# Altium integrated library TI Logic Gate 1.IntLib: 948 symbols (part 13 of 22)
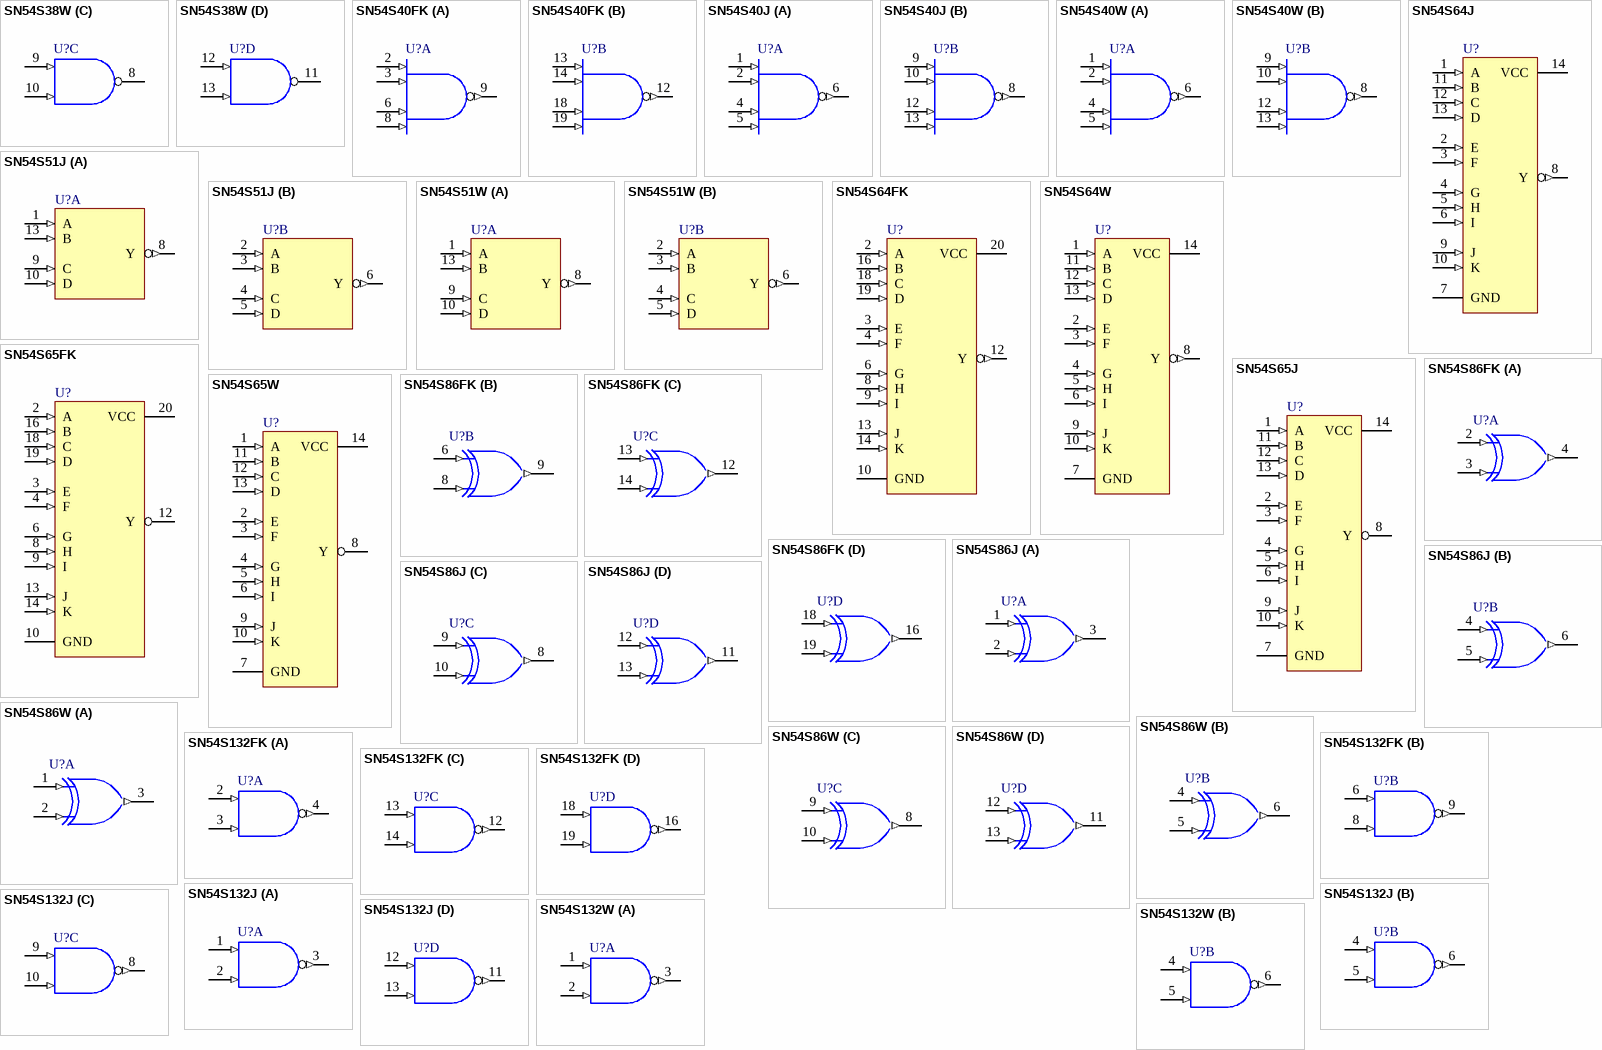
[diagram p102: symbols SN54S38W to SN54S132W]

## SN54S65W
designator U?
4-2-3-2 Input AND-OR-Invert Gate; Published: 8-Jun-2000; LatestRevisionDate: 04-Mar-2005; LatestRevisionNote: Stylized 3D Model Added.; DatasheetVersion: Mar-1988; PackageVersion: Jan-1995; PackageReference: W014; Publisher: Altium Limited; PackageDescription: DFP; 14 Leads; Body 9.9 x 6.6 mm (LxW max); Pitch 1.27 mm; Code_JEDEC: MO-092-AB; ComponentLink1Description: Manufacturer Link; ComponentLink1URL: http://www.ti.com/; ComponentLink2Description: Datasheet; ComponentLink2URL: http://www-s.ti.com/sc/ds/sn54s64.pdf; ComponentLink3Description: Packaging Specification; ComponentLink3URL: http://focus.ti.com/lit/ml/mcfp002a/mcfp002a.pdf
footprint W014 (DFP; 14 Leads; Body 9.9 x 6.6 mm (LxW max); Pitch 1.27 mm)
3D model W014 (DFP; 14 Leads; Body 9.9 x 6.6 mm (LxW max); Pitch 1.27 mm)
signal-integrity model SN54S65W
pins: 1 A (in), 2 E (in), 3 F (in), 4 G (in), 5 H (in), 6 I (in), 7 GND (power), 8 Y (oc), 9 J (in), 10 K (in), 11 B (in), 12 C (in), 13 D (in), 14 VCC (power)

## SN54S86FK
designator U?
Quadruple 2-Input Exclusive-OR Gate; Note: Pins 1, 5, 7, 11, 15 and 17 are not connected and not drawn; Published: 8-Jun-2000; LatestRevisionDate: 17-Jul-2002; LatestRevisionNote: Re-released for DXP Platform.; DatasheetVersion: Mar-1988; PackageVersion: 1998; PackageReference: FK020; Publisher: Altium Limited; PackageDescription: Leadless Chip Carrier; 20 Terminals; Body 8.9 x 8.9 mm; ComponentLink1Description: Manufacturer Link; ComponentLink1URL: http://www.ti.com/; ComponentLink2Description: Datasheet; ComponentLink2URL: http://www-s.ti.com/sc/ds/sn5486.pdf; ComponentLink3Description: Packaging Specification; ComponentLink3URL: http://www-s.ti.com/sc/psheets/mlcc006b/mlcc006b.pdf
footprint FK020 (Leadless Chip Carrier; 20 Terminals; Body 8.9 x 8.9 mm)
signal-integrity model SN54S86FK
pins on every part: 10 GND (power) hidden to GND, 20 VCC (power) hidden to VCC
part A pins: 2 A (in), 3 B (in), 4 Y (out)
part B pins: 6 A (in), 8 B (in), 9 Y (out)
part C pins: 12 Y (out), 13 A (in), 14 B (in)
part D pins: 16 Y (out), 18 A (in), 19 B (in)

## SN54S86J
designator U?
Quadruple 2-Input Exclusive-OR Gate; Published: 8-Jun-2000; LatestRevisionDate: 04-Mar-2005; LatestRevisionNote: Stylized 3D Model Added.; DatasheetVersion: Mar-1988; PackageVersion: Jun-1999; PackageReference: J014; Publisher: Altium Limited; PackageDescription: DIP; 14 Leads; Row Spacing 7.62 mm; Pitch 2.54 mm; ComponentLink1Description: Manufacturer Link; ComponentLink1URL: http://www.ti.com/; ComponentLink2Description: Datasheet; ComponentLink2URL: http://www-s.ti.com/sc/ds/sn5486.pdf; ComponentLink3Description: Packaging Specification; ComponentLink3URL: http://focus.ti.com/lit/ml/mcer002d/mcer002d.pdf
footprint J014 (DIP; 14 Leads; Row Spacing 7.62 mm; Pitch 2.54 mm)
3D model J014 (DIP; 14 Leads; Row Spacing 7.62 mm; Pitch 2.54 mm)
signal-integrity model SN54S86J
pins on every part: 7 GND (power) hidden to GND, 14 VCC (power) hidden to VCC
part A pins: 1 A (in), 2 B (in), 3 Y (out)
part B pins: 4 A (in), 5 B (in), 6 Y (out)
part C pins: 8 Y (out), 9 A (in), 10 B (in)
part D pins: 11 Y (out), 12 A (in), 13 B (in)

## SN54S86W
designator U?
Quadruple 2-Input Exclusive-OR Gate; Published: 8-Jun-2000; LatestRevisionDate: 04-Mar-2005; LatestRevisionNote: Stylized 3D Model Added.; DatasheetVersion: Mar-1988; PackageVersion: Jan-1995; PackageReference: W014; Publisher: Altium Limited; PackageDescription: DFP; 14 Leads; Body 9.9 x 6.6 mm (LxW max); Pitch 1.27 mm; Code_JEDEC: MO-092-AB; ComponentLink1Description: Manufacturer Link; ComponentLink1URL: http://www.ti.com/; ComponentLink2Description: Datasheet; ComponentLink2URL: http://www-s.ti.com/sc/ds/sn5486.pdf; ComponentLink3Description: Packaging Specification; ComponentLink3URL: http://focus.ti.com/lit/ml/mcfp002a/mcfp002a.pdf
footprint W014 (DFP; 14 Leads; Body 9.9 x 6.6 mm (LxW max); Pitch 1.27 mm)
3D model W014 (DFP; 14 Leads; Body 9.9 x 6.6 mm (LxW max); Pitch 1.27 mm)
signal-integrity model SN54S86W
pins on every part: 7 GND (power) hidden to GND, 14 VCC (power) hidden to VCC
part A pins: 1 A (in), 2 B (in), 3 Y (out)
part B pins: 4 A (in), 5 B (in), 6 Y (out)
part C pins: 8 Y (out), 9 A (in), 10 B (in)
part D pins: 11 Y (out), 12 A (in), 13 B (in)

## SN54S132FK
designator U?
Quadruple 2-Input Positive-NAND Schmitt Trigger; Note: Pins 1, 5, 7, 11, 15 and 17 are not connected and not drawn; Published: 8-Jun-2000; LatestRevisionDate: 17-Jul-2002; LatestRevisionNote: Re-released for DXP Platform.; DatasheetVersion: Mar-1988; PackageVersion: 1998; PackageReference: FK020; Publisher: Altium Limited; PackageDescription: Leadless Chip Carrier; 20 Terminals; Body 8.9 x 8.9 mm; ComponentLink1Description: Manufacturer Link; ComponentLink1URL: http://www.ti.com/; ComponentLink2Description: Datasheet; ComponentLink2URL: http://www-s.ti.com/sc/ds/sn54ls132.pdf; ComponentLink3Description: Packaging Specification; ComponentLink3URL: http://www-s.ti.com/sc/psheets/mlcc006b/mlcc006b.pdf
footprint FK020 (Leadless Chip Carrier; 20 Terminals; Body 8.9 x 8.9 mm)
signal-integrity model SN54S132FK
pins on every part: 10 GND (power) hidden to GND, 20 VCC (power) hidden to VCC
part A pins: 2 A (in), 3 B (in), 4 Y (out)
part B pins: 6 A (in), 8 B (in), 9 Y (out)
part C pins: 12 Y (out), 13 A (in), 14 B (in)
part D pins: 16 Y (out), 18 A (in), 19 B (in)

## SN54S132J
designator U?
Quadruple 2-Input Positive-NAND Schmitt Trigger; Published: 8-Jun-2000; LatestRevisionDate: 04-Mar-2005; LatestRevisionNote: Stylized 3D Model Added.; DatasheetVersion: Mar-1988; PackageVersion: Jun-1999; PackageReference: J014; Publisher: Altium Limited; PackageDescription: DIP; 14 Leads; Row Spacing 7.62 mm; Pitch 2.54 mm; ComponentLink1Description: Manufacturer Link; ComponentLink1URL: http://www.ti.com/; ComponentLink2Description: Datasheet; ComponentLink2URL: http://www-s.ti.com/sc/ds/sn54ls132.pdf; ComponentLink3Description: Packaging Specification; ComponentLink3URL: http://focus.ti.com/lit/ml/mcer002d/mcer002d.pdf
footprint J014 (DIP; 14 Leads; Row Spacing 7.62 mm; Pitch 2.54 mm)
3D model J014 (DIP; 14 Leads; Row Spacing 7.62 mm; Pitch 2.54 mm)
signal-integrity model SN54S132J
pins on every part: 7 GND (power) hidden to GND, 14 VCC (power) hidden to VCC
part A pins: 1 A (in), 2 B (in), 3 Y (out)
part B pins: 4 A (in), 5 B (in), 6 Y (out)
part C pins: 8 Y (out), 9 A (in), 10 B (in)
part D pins: 11 Y (out), 12 A (in), 13 B (in)

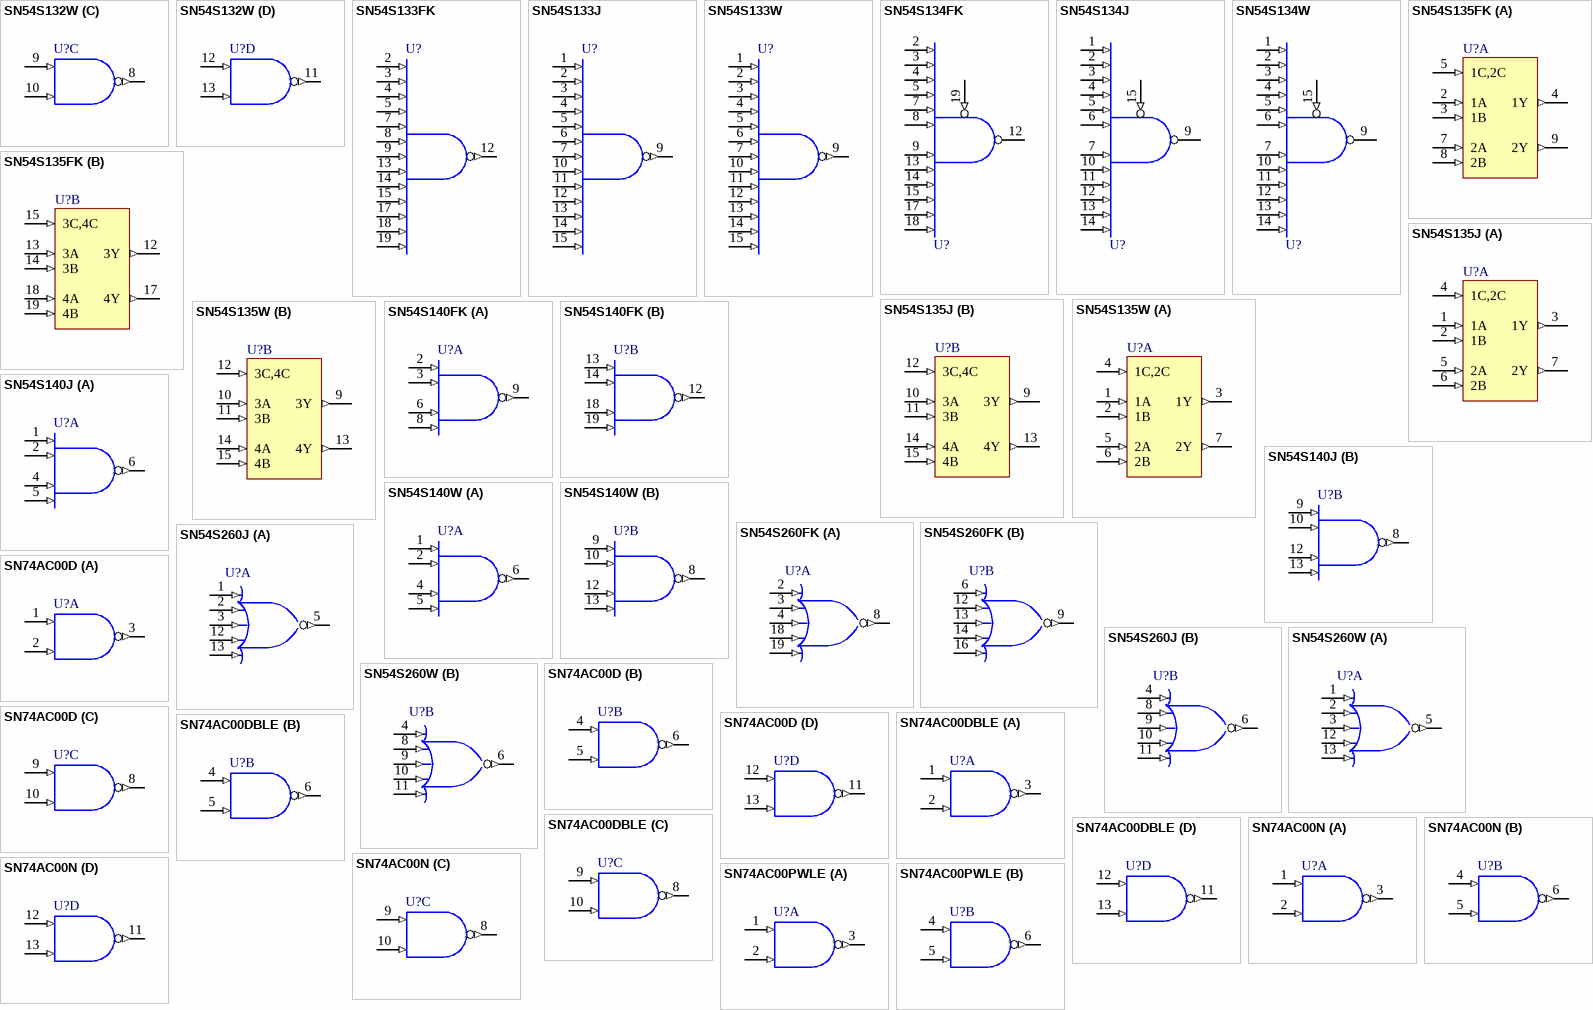
[diagram p51: symbols SN54S132W to SN74AC00PWLE]

## SN54S132W
designator U?
Quadruple 2-Input Positive-NAND Schmitt Trigger; Published: 8-Jun-2000; LatestRevisionDate: 04-Mar-2005; LatestRevisionNote: Stylized 3D Model Added.; DatasheetVersion: Mar-1988; PackageVersion: Jan-1995; PackageReference: W014; Publisher: Altium Limited; PackageDescription: DFP; 14 Leads; Body 9.9 x 6.6 mm (LxW max); Pitch 1.27 mm; Code_JEDEC: MO-092-AB; ComponentLink1Description: Manufacturer Link; ComponentLink1URL: http://www.ti.com/; ComponentLink2Description: Datasheet; ComponentLink2URL: http://www-s.ti.com/sc/ds/sn54ls132.pdf; ComponentLink3Description: Packaging Specification; ComponentLink3URL: http://focus.ti.com/lit/ml/mcfp002a/mcfp002a.pdf
footprint W014 (DFP; 14 Leads; Body 9.9 x 6.6 mm (LxW max); Pitch 1.27 mm)
3D model W014 (DFP; 14 Leads; Body 9.9 x 6.6 mm (LxW max); Pitch 1.27 mm)
signal-integrity model SN54S132W
pins on every part: 7 GND (power) hidden to GND, 14 VCC (power) hidden to VCC
part A pins: 1 A (in), 2 B (in), 3 Y (out)
part B pins: 4 A (in), 5 B (in), 6 Y (out)
part C pins: 8 Y (out), 9 A (in), 10 B (in)
part D pins: 11 Y (out), 12 A (in), 13 B (in)

## SN54S133FK
designator U?
13-Input Positive-NAND Gate; Note: Pins 1, 6, 11 and 16 are NC & not drawn.; Published: 8-Jun-2000; LatestRevisionDate: 17-Jul-2002; LatestRevisionNote: Re-released for DXP Platform.; DatasheetVersion: Mar-1988; PackageVersion: 1998; PackageReference: FK020; Publisher: Altium Limited; PackageDescription: Leadless Chip Carrier; 20 Terminals; Body 8.9 x 8.9 mm; ComponentLink1Description: Manufacturer Link; ComponentLink1URL: http://www.ti.com/; ComponentLink2Description: Datasheet; ComponentLink2URL: http://www-s.ti.com/sc/ds/sn54s133.pdf; ComponentLink3Description: Packaging Specification; ComponentLink3URL: http://www-s.ti.com/sc/psheets/mlcc006b/mlcc006b.pdf
footprint FK020 (Leadless Chip Carrier; 20 Terminals; Body 8.9 x 8.9 mm)
simulation model SN74S133 (SIMCODE)
signal-integrity model SN54S133FK
pins: 2 A (in), 3 B (in), 4 C (in), 5 D (in), 7 E (in), 8 F (in), 9 G (in), 10 GND (power) hidden to GND, 12 Y (out), 13 H (in), 14 I (in), 15 J (in), 17 K (in), 18 L (in), 19 M (in), 20 VCC (power) hidden to VCC

## SN54S133J
designator U?
13-Input Positive-NAND Gate; Published: 8-Jun-2000; LatestRevisionDate: 04-Mar-2005; LatestRevisionNote: Stylized 3D Model Added.; DatasheetVersion: Mar-1988; PackageVersion: Jun-1999; PackageReference: J016; Publisher: Altium Limited; PackageDescription: DIP; 16 Leads; Row Spacing 7.62 mm; Pitch 2.54 mm; ComponentLink1Description: Manufacturer Link; ComponentLink1URL: http://www.ti.com/; ComponentLink2Description: Datasheet; ComponentLink2URL: http://www-s.ti.com/sc/ds/sn54s133.pdf; ComponentLink3Description: Packaging Specification; ComponentLink3URL: http://focus.ti.com/lit/ml/mcer002d/mcer002d.pdf
footprint J016 (DIP; 16 Leads; Row Spacing 7.62 mm; Pitch 2.54 mm)
3D model J016 (DIP; 16 Leads; Row Spacing 7.62 mm; Pitch 2.54 mm)
simulation model SN74S133 (SIMCODE)
signal-integrity model SN54S133J
pins: 1 A (in), 2 B (in), 3 C (in), 4 D (in), 5 E (in), 6 F (in), 7 G (in), 8 GND (power) hidden to GND, 9 Y (out), 10 H (in), 11 I (in), 12 J (in), 13 K (in), 14 L (in), 15 M (in), 16 VCC (power) hidden to VCC

## SN54S133W
designator U?
13-Input Positive-NAND Gate; Published: 8-Jun-2000; LatestRevisionDate: 04-Mar-2005; LatestRevisionNote: Stylized 3D Model Added.; DatasheetVersion: Mar-1988; PackageVersion: Jan-1995; PackageReference: W016; Publisher: Altium Limited; PackageDescription: DFP; 16 Leads; Body 10.9 x 7.2 mm (LxW max); Pitch 1.27 mm; Code_JEDEC: MO-092-AC; ComponentLink1Description: Manufacturer Link; ComponentLink1URL: http://www.ti.com/; ComponentLink2Description: Datasheet; ComponentLink2URL: http://www-s.ti.com/sc/ds/sn54s133.pdf; ComponentLink3Description: Packaging Specification; ComponentLink3URL: http://focus.ti.com/lit/ml/mcfp004a/mcfp004a.pdf
footprint W016 (DFP; 16 Leads; Body 10.9 x 7.2 mm (LxW max); Pitch 1.27 mm)
3D model W016 (DFP; 16 Leads; Body 10.9 x 7.2 mm (LxW max); Pitch 1.27 mm)
simulation model SN74S133 (SIMCODE)
signal-integrity model SN54S133W
pins: 1 A (in), 2 B (in), 3 C (in), 4 D (in), 5 E (in), 6 F (in), 7 G (in), 8 GND (power) hidden to GND, 9 Y (out), 10 H (in), 11 I (in), 12 J (in), 13 K (in), 14 L (in), 15 M (in), 16 VCC (power) hidden to VCC

## SN54S134FK
designator U?
12-Input Positive-NAND Gate with 3-State Outputs; Note: Pins 1, 6, 11 and 16 are not connected and not drawn; Published: 8-Jun-2000; LatestRevisionDate: 17-Jul-2002; LatestRevisionNote: Re-released for DXP Platform.; DatasheetVersion: Mar-1988; PackageVersion: 1998; PackageReference: FK020; Publisher: Altium Limited; PackageDescription: Leadless Chip Carrier; 20 Terminals; Body 8.9 x 8.9 mm; ComponentLink1Description: Manufacturer Link; ComponentLink1URL: http://www.ti.com/; ComponentLink2Description: Datasheet; ComponentLink2URL: http://www-s.ti.com/sc/ds/sn54s134.pdf; ComponentLink3Description: Packaging Specification; ComponentLink3URL: http://www-s.ti.com/sc/psheets/mlcc006b/mlcc006b.pdf
footprint FK020 (Leadless Chip Carrier; 20 Terminals; Body 8.9 x 8.9 mm)
signal-integrity model SN54S134FK
pins: 2 A (in), 3 B (in), 4 C (in), 5 D (in), 7 E (in), 8 F (in), 9 G (in), 10 GND (power) hidden to GND, 12 Y (hiz), 13 H (in), 14 I (in), 15 J (in), 17 K (in), 18 L (in), 19 ~{OE} (in), 20 VCC (power) hidden to VCC

## SN54S134J
designator U?
12-Input Positive-NAND Gate with 3-State Outputs; Published: 8-Jun-2000; LatestRevisionDate: 04-Mar-2005; LatestRevisionNote: Stylized 3D Model Added.; DatasheetVersion: Mar-1988; PackageVersion: Jun-1999; PackageReference: J016; Publisher: Altium Limited; PackageDescription: DIP; 16 Leads; Row Spacing 7.62 mm; Pitch 2.54 mm; ComponentLink1Description: Manufacturer Link; ComponentLink1URL: http://www.ti.com/; ComponentLink2Description: Datasheet; ComponentLink2URL: http://www-s.ti.com/sc/ds/sn54s134.pdf; ComponentLink3Description: Packaging Specification; ComponentLink3URL: http://focus.ti.com/lit/ml/mcer002d/mcer002d.pdf
footprint J016 (DIP; 16 Leads; Row Spacing 7.62 mm; Pitch 2.54 mm)
3D model J016 (DIP; 16 Leads; Row Spacing 7.62 mm; Pitch 2.54 mm)
signal-integrity model SN54S134J
pins: 1 A (in), 2 B (in), 3 C (in), 4 D (in), 5 E (in), 6 F (in), 7 G (in), 8 GND (power) hidden to GND, 9 Y (hiz), 10 H (in), 11 I (in), 12 J (in), 13 K (in), 14 L (in), 15 ~{OE} (in), 16 VCC (power) hidden to VCC

## SN54S134W
designator U?
12-Input Positive-NAND Gate with 3-State Outputs; Published: 8-Jun-2000; LatestRevisionDate: 04-Mar-2005; LatestRevisionNote: Stylized 3D Model Added.; DatasheetVersion: Mar-1988; PackageVersion: Jan-1995; PackageReference: W016; Publisher: Altium Limited; PackageDescription: DFP; 16 Leads; Body 10.9 x 7.2 mm (LxW max); Pitch 1.27 mm; Code_JEDEC: MO-092-AC; ComponentLink1Description: Manufacturer Link; ComponentLink1URL: http://www.ti.com/; ComponentLink2Description: Datasheet; ComponentLink2URL: http://www-s.ti.com/sc/ds/sn54s134.pdf; ComponentLink3Description: Packaging Specification; ComponentLink3URL: http://focus.ti.com/lit/ml/mcfp004a/mcfp004a.pdf
footprint W016 (DFP; 16 Leads; Body 10.9 x 7.2 mm (LxW max); Pitch 1.27 mm)
3D model W016 (DFP; 16 Leads; Body 10.9 x 7.2 mm (LxW max); Pitch 1.27 mm)
signal-integrity model SN54S134W
pins: 1 A (in), 2 B (in), 3 C (in), 4 D (in), 5 E (in), 6 F (in), 7 G (in), 8 GND (power) hidden to GND, 9 Y (hiz), 10 H (in), 11 I (in), 12 J (in), 13 K (in), 14 L (in), 15 ~{OE} (in), 16 VCC (power) hidden to VCC

## SN54S135FK
designator U?
Quadruple Exclusive-OR / NOR Gate; Note: Pins 1, 6, 11 and 16 are not connected and not drawn; Published: 8-Jun-2000; LatestRevisionDate: 17-Jul-2002; LatestRevisionNote: Re-released for DXP Platform.; DatasheetVersion: Mar-1988; PackageVersion: 1998; PackageReference: FK020; Publisher: Altium Limited; PackageDescription: Leadless Chip Carrier; 20 Terminals; Body 8.9 x 8.9 mm; ComponentLink1Description: Manufacturer Link; ComponentLink1URL: http://www.ti.com/; ComponentLink2Description: Datasheet; ComponentLink2URL: http://www-s.ti.com/sc/ds/sn54s135.pdf; ComponentLink3Description: Packaging Specification; ComponentLink3URL: http://www-s.ti.com/sc/psheets/mlcc006b/mlcc006b.pdf
footprint FK020 (Leadless Chip Carrier; 20 Terminals; Body 8.9 x 8.9 mm)
signal-integrity model SN54S135FK
pins on every part: 10 GND (power) hidden to GND, 20 VCC (power) hidden to VCC
part A pins: 2 1A (in), 3 1B (in), 4 1Y (out), 5 1C,2C (in), 7 2A (in), 8 2B (in), 9 2Y (out)
part B pins: 12 3Y (out), 13 3A (in), 14 3B (in), 15 3C,4C (in), 17 4Y (out), 18 4A (in), 19 4B (in)

## SN54S135J
designator U?
Quadruple Exclusive-OR / NOR Gate; Published: 8-Jun-2000; LatestRevisionDate: 04-Mar-2005; LatestRevisionNote: Stylized 3D Model Added.; DatasheetVersion: Mar-1988; PackageVersion: Jun-1999; PackageReference: J016; Publisher: Altium Limited; PackageDescription: DIP; 16 Leads; Row Spacing 7.62 mm; Pitch 2.54 mm; ComponentLink1Description: Manufacturer Link; ComponentLink1URL: http://www.ti.com/; ComponentLink2Description: Datasheet; ComponentLink2URL: http://www-s.ti.com/sc/ds/sn54s135.pdf; ComponentLink3Description: Packaging Specification; ComponentLink3URL: http://focus.ti.com/lit/ml/mcer002d/mcer002d.pdf
footprint J016 (DIP; 16 Leads; Row Spacing 7.62 mm; Pitch 2.54 mm)
3D model J016 (DIP; 16 Leads; Row Spacing 7.62 mm; Pitch 2.54 mm)
signal-integrity model SN54S135J
pins on every part: 8 GND (power) hidden to GND, 16 VCC (power) hidden to VCC
part A pins: 1 1A (in), 2 1B (in), 3 1Y (out), 4 1C,2C (in), 5 2A (in), 6 2B (in), 7 2Y (out)
part B pins: 9 3Y (out), 10 3A (in), 11 3B (in), 12 3C,4C (in), 13 4Y (out), 14 4A (in), 15 4B (in)

## SN54S135W
designator U?
Quadruple Exclusive-OR / NOR Gate; Published: 8-Jun-2000; LatestRevisionDate: 04-Mar-2005; LatestRevisionNote: Stylized 3D Model Added.; DatasheetVersion: Mar-1988; PackageVersion: Jan-1995; PackageReference: W016; Publisher: Altium Limited; PackageDescription: DFP; 16 Leads; Body 10.9 x 7.2 mm (LxW max); Pitch 1.27 mm; Code_JEDEC: MO-092-AC; ComponentLink1Description: Manufacturer Link; ComponentLink1URL: http://www.ti.com/; ComponentLink2Description: Datasheet; ComponentLink2URL: http://www-s.ti.com/sc/ds/sn54s135.pdf; ComponentLink3Description: Packaging Specification; ComponentLink3URL: http://focus.ti.com/lit/ml/mcfp004a/mcfp004a.pdf
footprint W016 (DFP; 16 Leads; Body 10.9 x 7.2 mm (LxW max); Pitch 1.27 mm)
3D model W016 (DFP; 16 Leads; Body 10.9 x 7.2 mm (LxW max); Pitch 1.27 mm)
signal-integrity model SN54S135W
pins on every part: 8 GND (power) hidden to GND, 16 VCC (power) hidden to VCC
part A pins: 1 1A (in), 2 1B (in), 3 1Y (out), 4 1C,2C (in), 5 2A (in), 6 2B (in), 7 2Y (out)
part B pins: 9 3Y (out), 10 3A (in), 11 3B (in), 12 3C,4C (in), 13 4Y (out), 14 4A (in), 15 4B (in)

## SN54S140FK
designator U?
Dual 4-Input Positive-NAND 50-Ohm Line Driver; Note: Pins 1, 4, 5, 7, 11, 15, 16 and 17 are not connected and not drawn; Published: 8-Jun-2000; LatestRevisionDate: 17-Jul-2002; LatestRevisionNote: Re-released for DXP Platform.; DatasheetVersion: Mar-1988; PackageVersion: 1998; PackageReference: FK020; Publisher: Altium Limited; PackageDescription: Leadless Chip Carrier; 20 Terminals; Body 8.9 x 8.9 mm; ComponentLink1Description: Manufacturer Link; ComponentLink1URL: http://www.ti.com/; ComponentLink2Description: Datasheet; ComponentLink2URL: http://www-s.ti.com/sc/ds/sn54s140.pdf; ComponentLink3Description: Packaging Specification; ComponentLink3URL: http://www-s.ti.com/sc/psheets/mlcc006b/mlcc006b.pdf
footprint FK020 (Leadless Chip Carrier; 20 Terminals; Body 8.9 x 8.9 mm)
signal-integrity model SN54S140FK
pins on every part: 10 GND (power) hidden to GND, 20 VCC (power) hidden to VCC
part A pins: 2 A (in), 3 B (in), 6 C (in), 8 D (in), 9 Y (out)
part B pins: 12 Y (out), 13 A (in), 14 B (in), 18 C (in), 19 D (in)

## SN54S140J
designator U?
Dual 4-Input Positive-NAND 50-Ohm Line Driver; Note: Pins 3 and 11 are not connected and not drawn; Published: 8-Jun-2000; LatestRevisionDate: 04-Mar-2005; LatestRevisionNote: Stylized 3D Model Added.; DatasheetVersion: Mar-1988; PackageVersion: Jun-1999; PackageReference: J014; Publisher: Altium Limited; PackageDescription: DIP; 14 Leads; Row Spacing 7.62 mm; Pitch 2.54 mm; ComponentLink1Description: Manufacturer Link; ComponentLink1URL: http://www.ti.com/; ComponentLink2Description: Datasheet; ComponentLink2URL: http://www-s.ti.com/sc/ds/sn54s140.pdf; ComponentLink3Description: Packaging Specification; ComponentLink3URL: http://focus.ti.com/lit/ml/mcer002d/mcer002d.pdf
footprint J014 (DIP; 14 Leads; Row Spacing 7.62 mm; Pitch 2.54 mm)
3D model J014 (DIP; 14 Leads; Row Spacing 7.62 mm; Pitch 2.54 mm)
signal-integrity model SN54S140J
pins on every part: 7 GND (power) hidden to GND, 14 VCC (power) hidden to VCC
part A pins: 1 A (in), 2 B (in), 4 C (in), 5 D (in), 6 Y (out)
part B pins: 8 Y (out), 9 A (in), 10 B (in), 12 C (in), 13 D (in)

## SN54S140W
designator U?
Dual 4-Input Positive-NAND 50-Ohm Line Driver; Note: Pins 3 and 11 are not connected and not drawn; Published: 8-Jun-2000; LatestRevisionDate: 04-Mar-2005; LatestRevisionNote: Stylized 3D Model Added.; DatasheetVersion: Mar-1988; PackageVersion: Jan-1995; PackageReference: W014; Publisher: Altium Limited; PackageDescription: DFP; 14 Leads; Body 9.9 x 6.6 mm (LxW max); Pitch 1.27 mm; Code_JEDEC: MO-092-AB; ComponentLink1Description: Manufacturer Link; ComponentLink1URL: http://www.ti.com/; ComponentLink2Description: Datasheet; ComponentLink2URL: http://www-s.ti.com/sc/ds/sn54s140.pdf; ComponentLink3Description: Packaging Specification; ComponentLink3URL: http://focus.ti.com/lit/ml/mcfp002a/mcfp002a.pdf
footprint W014 (DFP; 14 Leads; Body 9.9 x 6.6 mm (LxW max); Pitch 1.27 mm)
3D model W014 (DFP; 14 Leads; Body 9.9 x 6.6 mm (LxW max); Pitch 1.27 mm)
signal-integrity model SN54S140W
pins on every part: 7 GND (power) hidden to GND, 14 VCC (power) hidden to VCC
part A pins: 1 A (in), 2 B (in), 4 C (in), 5 D (in), 6 Y (out)
part B pins: 8 Y (out), 9 A (in), 10 B (in), 12 C (in), 13 D (in)

## SN54S260FK
designator U?
Dual 5-Input Positive-NOR Gate; Note: Pins 1, 5, 7, 11, 15 and 17 are not connected and not drawn; Published: 8-Jun-2000; LatestRevisionDate: 17-Jul-2002; LatestRevisionNote: Re-released for DXP Platform.; DatasheetVersion: Mar-1988; PackageVersion: 1998; PackageReference: FK020; Publisher: Altium Limited; PackageDescription: Leadless Chip Carrier; 20 Terminals; Body 8.9 x 8.9 mm; ComponentLink1Description: Manufacturer Link; ComponentLink1URL: http://www.ti.com/; ComponentLink2Description: Datasheet; ComponentLink2URL: http://www-s.ti.com/sc/ds/sn54s260.pdf; ComponentLink3Description: Packaging Specification; ComponentLink3URL: http://www-s.ti.com/sc/psheets/mlcc006b/mlcc006b.pdf
footprint FK020 (Leadless Chip Carrier; 20 Terminals; Body 8.9 x 8.9 mm)
signal-integrity model SN54S260FK
pins on every part: 10 GND (power) hidden to GND, 20 VCC (power) hidden to VCC
part A pins: 2 A (in), 3 B (in), 4 C (in), 8 Y (out), 18 D (in), 19 E (in)
part B pins: 6 A (in), 9 Y (out), 12 B (in), 13 C (in), 14 D (in), 16 E (in)

## SN54S260J
designator U?
Dual 5-Input Positive-NOR Gate; Published: 8-Jun-2000; LatestRevisionDate: 04-Mar-2005; LatestRevisionNote: Stylized 3D Model Added.; DatasheetVersion: Mar-1988; PackageVersion: Jun-1999; PackageReference: J014; Publisher: Altium Limited; PackageDescription: DIP; 14 Leads; Row Spacing 7.62 mm; Pitch 2.54 mm; ComponentLink1Description: Manufacturer Link; ComponentLink1URL: http://www.ti.com/; ComponentLink2Description: Datasheet; ComponentLink2URL: http://www-s.ti.com/sc/ds/sn54s260.pdf; ComponentLink3Description: Packaging Specification; ComponentLink3URL: http://focus.ti.com/lit/ml/mcer002d/mcer002d.pdf
footprint J014 (DIP; 14 Leads; Row Spacing 7.62 mm; Pitch 2.54 mm)
3D model J014 (DIP; 14 Leads; Row Spacing 7.62 mm; Pitch 2.54 mm)
signal-integrity model SN54S260J
pins on every part: 7 GND (power) hidden to GND, 14 VCC (power) hidden to VCC
part A pins: 1 A (in), 2 B (in), 3 C (in), 5 Y (out), 12 D (in), 13 E (in)
part B pins: 4 A (in), 6 Y (out), 8 B (in), 9 C (in), 10 D (in), 11 E (in)

## SN54S260W
designator U?
Dual 5-Input Positive-NOR Gate; Published: 8-Jun-2000; LatestRevisionDate: 04-Mar-2005; LatestRevisionNote: Stylized 3D Model Added.; DatasheetVersion: Mar-1988; PackageVersion: Jan-1995; PackageReference: W014; Publisher: Altium Limited; PackageDescription: DFP; 14 Leads; Body 9.9 x 6.6 mm (LxW max); Pitch 1.27 mm; Code_JEDEC: MO-092-AB; ComponentLink1Description: Manufacturer Link; ComponentLink1URL: http://www.ti.com/; ComponentLink2Description: Datasheet; ComponentLink2URL: http://www-s.ti.com/sc/ds/sn54s260.pdf; ComponentLink3Description: Packaging Specification; ComponentLink3URL: http://focus.ti.com/lit/ml/mcfp002a/mcfp002a.pdf
footprint W014 (DFP; 14 Leads; Body 9.9 x 6.6 mm (LxW max); Pitch 1.27 mm)
3D model W014 (DFP; 14 Leads; Body 9.9 x 6.6 mm (LxW max); Pitch 1.27 mm)
signal-integrity model SN54S260W
pins on every part: 7 GND (power) hidden to GND, 14 VCC (power) hidden to VCC
part A pins: 1 A (in), 2 B (in), 3 C (in), 5 Y (out), 12 D (in), 13 E (in)
part B pins: 4 A (in), 6 Y (out), 8 B (in), 9 C (in), 10 D (in), 11 E (in)

## SN74AC00D
designator U?
Quadruple 2-Input Positive-NAND Gate; Published: 8-Jun-2000; LatestRevisionDate: 13-Apr-2006; LatestRevisionNote: IPC-7351 Footprint Added.; DatasheetVersion: Sep-1996; PackageVersion: Jan-1998; PackageReference: D014; Publisher: Altium Limited; PackageDescription: 14-Pin Small Outline Integrated Circuit 1.27 mm Pitch; Code_IPC: SOIC127P600-14; ComponentLink1Description: Manufacturer Link; ComponentLink1URL: http://www.ti.com/; ComponentLink2Description: Datasheet; ComponentLink2URL: http://www-s.ti.com/sc/ds/sn74ac00.pdf; ComponentLink3Description: Packaging Specification; ComponentLink3URL: http://focus.ti.com/lit/ml/mpds177/mpds177.pdf
footprint D014_N (SOIC, 14-Leads, Body 8.7x3.9mm, Pitch 1.27mm, IPC Medium Density)
footprint D014_L (SOIC, 14-Leads, Body 8.7x3.9mm, Pitch 1.27mm, IPC High Density)
footprint D014_M (SOIC, 14-Leads, Body 8.7x3.9mm, Pitch 1.27mm, IPC Low Density)
3D model D014 (14-Pin Small Outline Integrated Circuit 1.27 mm Pitch)
signal-integrity model SN74AC00D
pins on every part: 7 GND (power) hidden to GND, 14 VCC (power) hidden to VCC
part A pins: 1 A (in), 2 B (in), 3 Y (out)
part B pins: 4 A (in), 5 B (in), 6 Y (out)
part C pins: 8 Y (out), 9 A (in), 10 B (in)
part D pins: 11 Y (out), 12 A (in), 13 B (in)

## SN74AC00DBLE
designator U?
Quadruple 2-Input Positive-NAND Gate; Published: 8-Jun-2000; LatestRevisionDate: 04-Mar-2005; LatestRevisionNote: Stylized 3D Model Added.; DatasheetVersion: Sep-1996; PackageVersion: May-1999; PackageReference: DB014; Publisher: Altium Limited; PackageDescription: SSOP, Plastic; 14 Leads; Body Width 5.3 mm; Pitch 0.65 mm; Code_JEDEC: MO-150-AB; ComponentLink1Description: Manufacturer Link; ComponentLink1URL: http://www.ti.com/; ComponentLink2Description: Datasheet; ComponentLink2URL: http://www-s.ti.com/sc/ds/sn74ac00.pdf; ComponentLink3Description: Packaging Specification; ComponentLink3URL: http://focus.ti.com/lit/ml/msso002e/msso002e.pdf
footprint DB014 (SSOP, Plastic; 14 Leads; Body Width 5.3 mm; Pitch 0.65 mm)
3D model DB014 (SSOP, Plastic; 14 Leads; Body Width 5.3 mm; Pitch 0.65 mm)
signal-integrity model SN74AC00DBLE
pins on every part: 7 GND (power) hidden to GND, 14 VCC (power) hidden to VCC
part A pins: 1 A (in), 2 B (in), 3 Y (out)
part B pins: 4 A (in), 5 B (in), 6 Y (out)
part C pins: 8 Y (out), 9 A (in), 10 B (in)
part D pins: 11 Y (out), 12 A (in), 13 B (in)

## SN74AC00N
designator U?
Quadruple 2-Input Positive-NAND Gate; Published: 8-Jun-2000; LatestRevisionDate: 04-Mar-2005; LatestRevisionNote: Stylized 3D Model Added.; DatasheetVersion: Sep-1996; PackageVersion: Oct-1995; PackageReference: N014; Publisher: Altium Limited; PackageDescription: DIP; 14 Leads; Row Spacing 7.62 mm; Pitch 2.54 mm; ComponentLink1Description: Manufacturer Link; ComponentLink1URL: http://www.ti.com/; ComponentLink2Description: Datasheet; ComponentLink2URL: http://www-s.ti.com/sc/ds/sn74ac00.pdf; ComponentLink3Description: Packaging Specification; ComponentLink3URL: http://focus.ti.com/lit/ml/mpdi002c/mpdi002c.pdf
footprint N014 (DIP; 14 Leads; Row Spacing 7.62 mm; Pitch 2.54 mm)
3D model N014 (DIP; 14 Leads; Row Spacing 7.62 mm; Pitch 2.54 mm)
signal-integrity model SN74AC00N
pins on every part: 7 GND (power) hidden to GND, 14 VCC (power) hidden to VCC
part A pins: 1 A (in), 2 B (in), 3 Y (out)
part B pins: 4 A (in), 5 B (in), 6 Y (out)
part C pins: 8 Y (out), 9 A (in), 10 B (in)
part D pins: 11 Y (out), 12 A (in), 13 B (in)

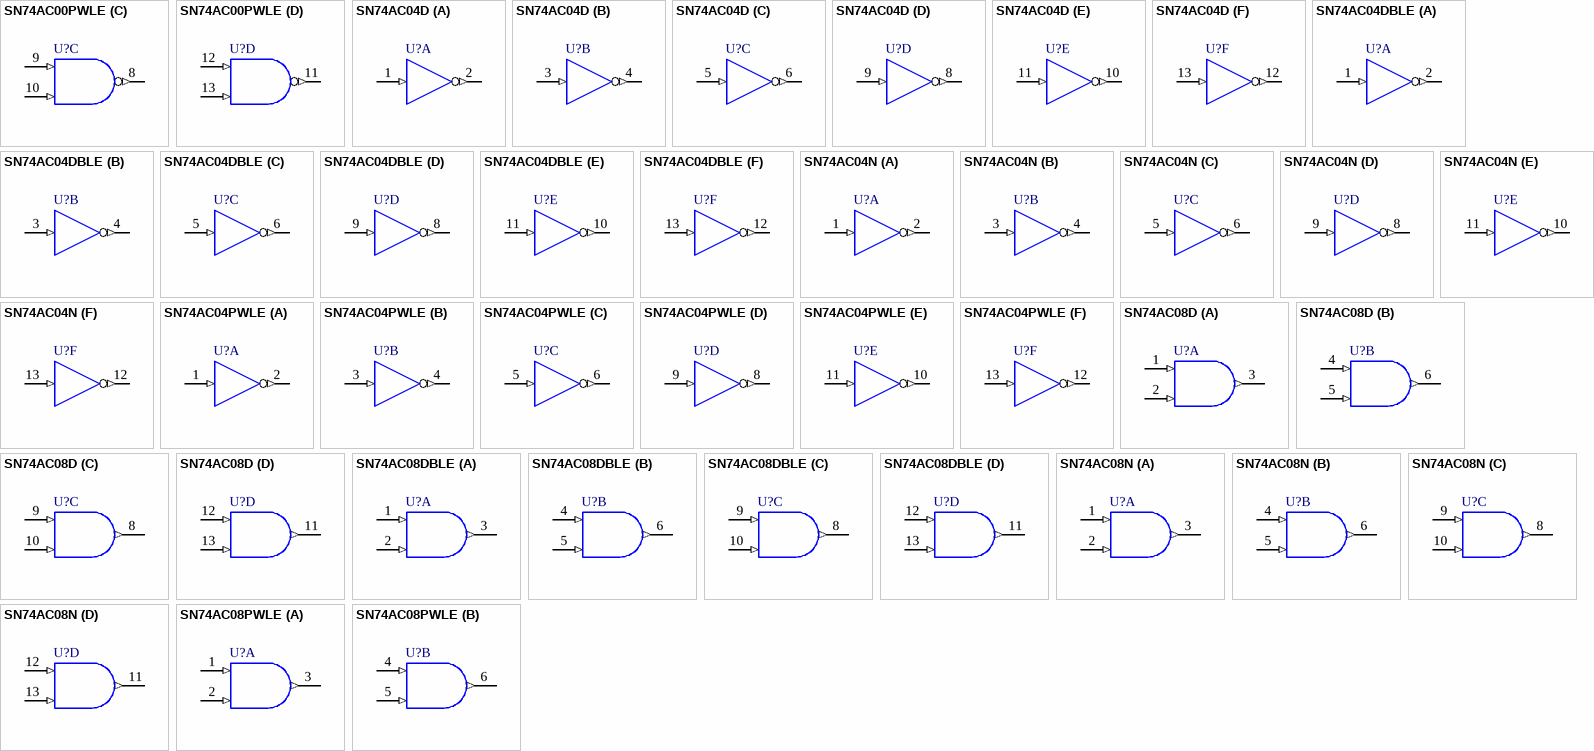
[diagram p52: symbols SN74AC00PWLE to SN74AC08PWLE]

## SN74AC00PWLE
designator U?
Quadruple 2-Input Positive-NAND Gate; Published: 8-Jun-2000; LatestRevisionDate: 04-Mar-2005; LatestRevisionNote: Stylized 3D Model Added.; DatasheetVersion: Sep-1996; PackageVersion: Feb-1999; PackageReference: PW014; Publisher: Altium Limited; PackageDescription: Shrink Small Outline; 14 Leads; Body Width 4.4 mm; Pitch 0.65 mm; ComponentLink1Description: Manufacturer Link; ComponentLink1URL: http://www.ti.com/; ComponentLink2Description: Datasheet; ComponentLink2URL: http://www-s.ti.com/sc/ds/sn74ac00.pdf; ComponentLink3Description: Packaging Specification; ComponentLink3URL: http://focus.ti.com/lit/ml/mtss001c/mtss001c.pdf
footprint PW014 (Shrink Small Outline; 14 Leads; Body Width 4.4 mm; Pitch 0.65 mm)
3D model PW014 (Shrink Small Outline; 14 Leads; Body Width 4.4 mm; Pitch 0.65 mm)
signal-integrity model SN74AC00PWLE
pins on every part: 7 GND (power) hidden to GND, 14 VCC (power) hidden to VCC
part A pins: 1 A (in), 2 B (in), 3 Y (out)
part B pins: 4 A (in), 5 B (in), 6 Y (out)
part C pins: 8 Y (out), 9 A (in), 10 B (in)
part D pins: 11 Y (out), 12 A (in), 13 B (in)

## SN74AC04D
designator U?
Hex Inverter; Published: 8-Jun-2000; LatestRevisionDate: 13-Apr-2006; LatestRevisionNote: IPC-7351 Footprint Added.; DatasheetVersion: Sep-1996; PackageVersion: Jan-1998; PackageReference: D014; Publisher: Altium Limited; PackageDescription: 14-Pin Small Outline Integrated Circuit 1.27 mm Pitch; Code_IPC: SOIC127P600-14; ComponentLink1Description: Manufacturer Link; ComponentLink1URL: http://www.ti.com/; ComponentLink2Description: Datasheet; ComponentLink2URL: http://www-s.ti.com/sc/ds/sn74ac04.pdf; ComponentLink3Description: Packaging Specification; ComponentLink3URL: http://focus.ti.com/lit/ml/mpds177/mpds177.pdf
footprint D014_N (SOIC, 14-Leads, Body 8.7x3.9mm, Pitch 1.27mm, IPC Medium Density)
footprint D014_L (SOIC, 14-Leads, Body 8.7x3.9mm, Pitch 1.27mm, IPC High Density)
footprint D014_M (SOIC, 14-Leads, Body 8.7x3.9mm, Pitch 1.27mm, IPC Low Density)
3D model D014 (14-Pin Small Outline Integrated Circuit 1.27 mm Pitch)
signal-integrity model SN74AC04D
pins on every part: 7 GND (power) hidden to GND, 14 VCC (power) hidden to VCC
part A pins: 1 A (in), 2 Y (out)
part B pins: 3 A (in), 4 Y (out)
part C pins: 5 A (in), 6 Y (out)
part D pins: 8 Y (out), 9 A (in)
part E pins: 10 Y (out), 11 A (in)
part F pins: 12 Y (out), 13 A (in)

## SN74AC04DBLE
designator U?
Hex Inverter; Published: 8-Jun-2000; LatestRevisionDate: 04-Mar-2005; LatestRevisionNote: Stylized 3D Model Added.; DatasheetVersion: Sep-1996; PackageVersion: May-1999; PackageReference: DB014; Publisher: Altium Limited; PackageDescription: SSOP, Plastic; 14 Leads; Body Width 5.3 mm; Pitch 0.65 mm; Code_JEDEC: MO-150-AB; ComponentLink1Description: Manufacturer Link; ComponentLink1URL: http://www.ti.com/; ComponentLink2Description: Datasheet; ComponentLink2URL: http://www-s.ti.com/sc/ds/sn74ac04.pdf; ComponentLink3Description: Packaging Specification; ComponentLink3URL: http://focus.ti.com/lit/ml/msso002e/msso002e.pdf
footprint DB014 (SSOP, Plastic; 14 Leads; Body Width 5.3 mm; Pitch 0.65 mm)
3D model DB014 (SSOP, Plastic; 14 Leads; Body Width 5.3 mm; Pitch 0.65 mm)
signal-integrity model SN74AC04DBLE
pins on every part: 7 GND (power) hidden to GND, 14 VCC (power) hidden to VCC
part A pins: 1 A (in), 2 Y (out)
part B pins: 3 A (in), 4 Y (out)
part C pins: 5 A (in), 6 Y (out)
part D pins: 8 Y (out), 9 A (in)
part E pins: 10 Y (out), 11 A (in)
part F pins: 12 Y (out), 13 A (in)

## SN74AC04N
designator U?
Hex Inverter; Published: 8-Jun-2000; LatestRevisionDate: 04-Mar-2005; LatestRevisionNote: Stylized 3D Model Added.; DatasheetVersion: Sep-1996; PackageVersion: Oct-1995; PackageReference: N014; Publisher: Altium Limited; PackageDescription: DIP; 14 Leads; Row Spacing 7.62 mm; Pitch 2.54 mm; ComponentLink1Description: Manufacturer Link; ComponentLink1URL: http://www.ti.com/; ComponentLink2Description: Datasheet; ComponentLink2URL: http://www-s.ti.com/sc/ds/sn74ac04.pdf; ComponentLink3Description: Packaging Specification; ComponentLink3URL: http://focus.ti.com/lit/ml/mpdi002c/mpdi002c.pdf
footprint N014 (DIP; 14 Leads; Row Spacing 7.62 mm; Pitch 2.54 mm)
3D model N014 (DIP; 14 Leads; Row Spacing 7.62 mm; Pitch 2.54 mm)
signal-integrity model SN74AC04N
pins on every part: 7 GND (power) hidden to GND, 14 VCC (power) hidden to VCC
part A pins: 1 A (in), 2 Y (out)
part B pins: 3 A (in), 4 Y (out)
part C pins: 5 A (in), 6 Y (out)
part D pins: 8 Y (out), 9 A (in)
part E pins: 10 Y (out), 11 A (in)
part F pins: 12 Y (out), 13 A (in)

## SN74AC04PWLE
designator U?
Hex Inverter; Published: 8-Jun-2000; LatestRevisionDate: 04-Mar-2005; LatestRevisionNote: Stylized 3D Model Added.; DatasheetVersion: Sep-1996; PackageVersion: Feb-1999; PackageReference: PW014; Publisher: Altium Limited; PackageDescription: Shrink Small Outline; 14 Leads; Body Width 4.4 mm; Pitch 0.65 mm; ComponentLink1Description: Manufacturer Link; ComponentLink1URL: http://www.ti.com/; ComponentLink2Description: Datasheet; ComponentLink2URL: http://www-s.ti.com/sc/ds/sn74ac04.pdf; ComponentLink3Description: Packaging Specification; ComponentLink3URL: http://focus.ti.com/lit/ml/mtss001c/mtss001c.pdf
footprint PW014 (Shrink Small Outline; 14 Leads; Body Width 4.4 mm; Pitch 0.65 mm)
3D model PW014 (Shrink Small Outline; 14 Leads; Body Width 4.4 mm; Pitch 0.65 mm)
signal-integrity model SN74AC04PWLE
pins on every part: 7 GND (power) hidden to GND, 14 VCC (power) hidden to VCC
part A pins: 1 A (in), 2 Y (out)
part B pins: 3 A (in), 4 Y (out)
part C pins: 5 A (in), 6 Y (out)
part D pins: 8 Y (out), 9 A (in)
part E pins: 10 Y (out), 11 A (in)
part F pins: 12 Y (out), 13 A (in)

## SN74AC08D
designator U?
Quadruple 2-Input Positive-AND Gate; Published: 8-Jun-2000; LatestRevisionDate: 13-Apr-2006; LatestRevisionNote: IPC-7351 Footprint Added.; DatasheetVersion: Sep-1996; PackageVersion: Jan-1998; PackageReference: D014; Publisher: Altium Limited; PackageDescription: 14-Pin Small Outline Integrated Circuit 1.27 mm Pitch; Code_IPC: SOIC127P600-14; ComponentLink1Description: Manufacturer Link; ComponentLink1URL: http://www.ti.com/; ComponentLink2Description: Datasheet; ComponentLink2URL: http://www-s.ti.com/sc/ds/sn74ac08.pdf; ComponentLink3Description: Packaging Specification; ComponentLink3URL: http://focus.ti.com/lit/ml/mpds177/mpds177.pdf
footprint D014_N (SOIC, 14-Leads, Body 8.7x3.9mm, Pitch 1.27mm, IPC Medium Density)
footprint D014_L (SOIC, 14-Leads, Body 8.7x3.9mm, Pitch 1.27mm, IPC High Density)
footprint D014_M (SOIC, 14-Leads, Body 8.7x3.9mm, Pitch 1.27mm, IPC Low Density)
3D model D014 (14-Pin Small Outline Integrated Circuit 1.27 mm Pitch)
signal-integrity model SN74AC08D
pins on every part: 7 GND (power) hidden to GND, 14 VCC (power) hidden to VCC
part A pins: 1 A (in), 2 B (in), 3 Y (out)
part B pins: 4 A (in), 5 B (in), 6 Y (out)
part C pins: 8 Y (out), 9 A (in), 10 B (in)
part D pins: 11 Y (out), 12 A (in), 13 B (in)

## SN74AC08DBLE
designator U?
Quadruple 2-Input Positive-AND Gate; Published: 8-Jun-2000; LatestRevisionDate: 04-Mar-2005; LatestRevisionNote: Stylized 3D Model Added.; DatasheetVersion: Sep-1996; PackageVersion: May-1999; PackageReference: DB014; Publisher: Altium Limited; PackageDescription: SSOP, Plastic; 14 Leads; Body Width 5.3 mm; Pitch 0.65 mm; Code_JEDEC: MO-150-AB; ComponentLink1Description: Manufacturer Link; ComponentLink1URL: http://www.ti.com/; ComponentLink2Description: Datasheet; ComponentLink2URL: http://www-s.ti.com/sc/ds/sn74ac08.pdf; ComponentLink3Description: Packaging Specification; ComponentLink3URL: http://focus.ti.com/lit/ml/msso002e/msso002e.pdf
footprint DB014 (SSOP, Plastic; 14 Leads; Body Width 5.3 mm; Pitch 0.65 mm)
3D model DB014 (SSOP, Plastic; 14 Leads; Body Width 5.3 mm; Pitch 0.65 mm)
signal-integrity model SN74AC08DBLE
pins on every part: 7 GND (power) hidden to GND, 14 VCC (power) hidden to VCC
part A pins: 1 A (in), 2 B (in), 3 Y (out)
part B pins: 4 A (in), 5 B (in), 6 Y (out)
part C pins: 8 Y (out), 9 A (in), 10 B (in)
part D pins: 11 Y (out), 12 A (in), 13 B (in)

## SN74AC08N
designator U?
Quadruple 2-Input Positive-AND Gate; Published: 8-Jun-2000; LatestRevisionDate: 04-Mar-2005; LatestRevisionNote: Stylized 3D Model Added.; DatasheetVersion: Sep-1996; PackageVersion: Oct-1995; PackageReference: N014; Publisher: Altium Limited; PackageDescription: DIP; 14 Leads; Row Spacing 7.62 mm; Pitch 2.54 mm; ComponentLink1Description: Manufacturer Link; ComponentLink1URL: http://www.ti.com/; ComponentLink2Description: Datasheet; ComponentLink2URL: http://www-s.ti.com/sc/ds/sn74ac08.pdf; ComponentLink3Description: Packaging Specification; ComponentLink3URL: http://focus.ti.com/lit/ml/mpdi002c/mpdi002c.pdf
footprint N014 (DIP; 14 Leads; Row Spacing 7.62 mm; Pitch 2.54 mm)
3D model N014 (DIP; 14 Leads; Row Spacing 7.62 mm; Pitch 2.54 mm)
signal-integrity model SN74AC08N
pins on every part: 7 GND (power) hidden to GND, 14 VCC (power) hidden to VCC
part A pins: 1 A (in), 2 B (in), 3 Y (out)
part B pins: 4 A (in), 5 B (in), 6 Y (out)
part C pins: 8 Y (out), 9 A (in), 10 B (in)
part D pins: 11 Y (out), 12 A (in), 13 B (in)

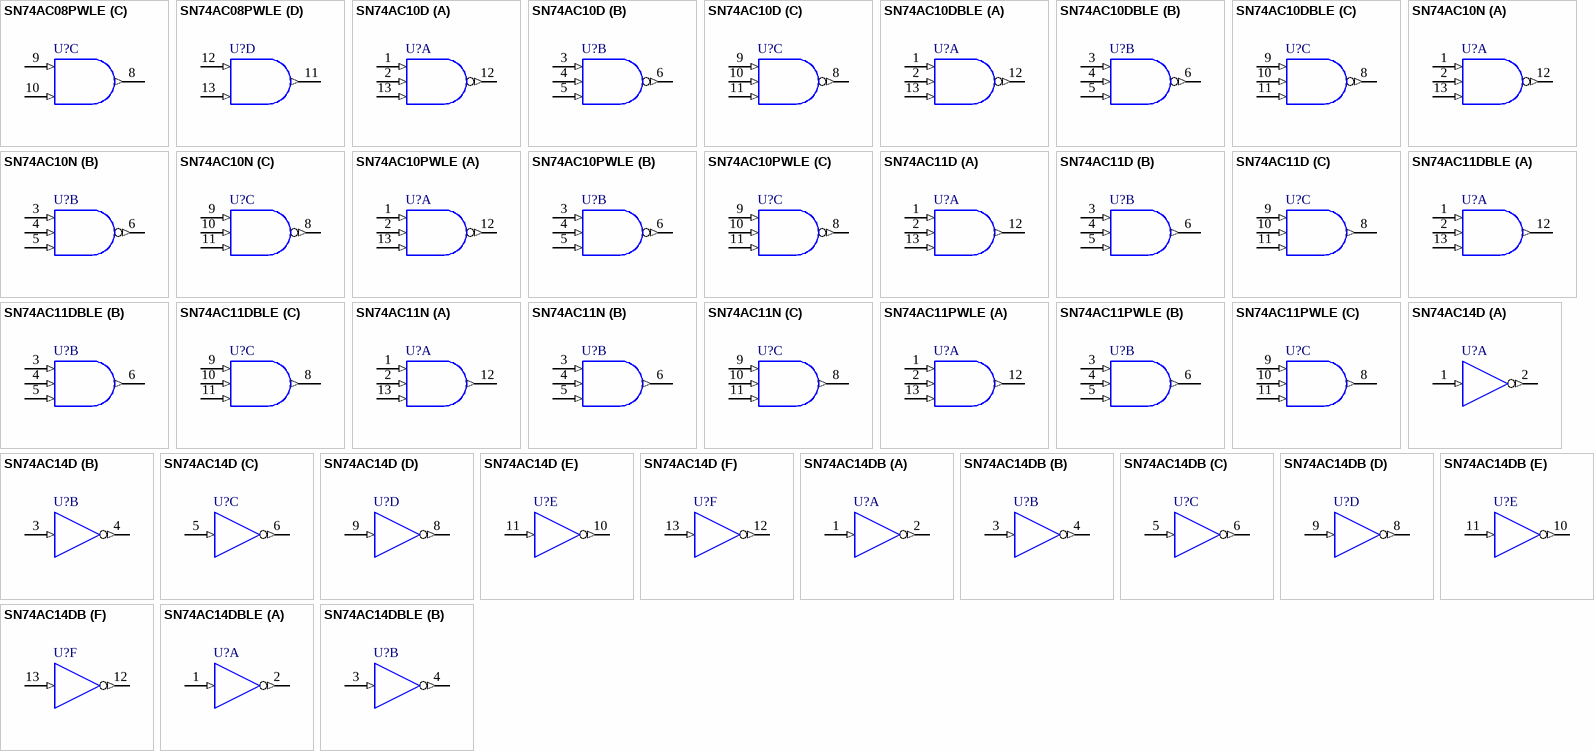
[diagram p53: symbols SN74AC08PWLE to SN74AC14DBLE]

## SN74AC08PWLE
designator U?
Quadruple 2-Input Positive-AND Gate; Published: 8-Jun-2000; LatestRevisionDate: 04-Mar-2005; LatestRevisionNote: Stylized 3D Model Added.; DatasheetVersion: Sep-1996; PackageVersion: Feb-1999; PackageReference: PW014; Publisher: Altium Limited; PackageDescription: Shrink Small Outline; 14 Leads; Body Width 4.4 mm; Pitch 0.65 mm; ComponentLink1Description: Manufacturer Link; ComponentLink1URL: http://www.ti.com/; ComponentLink2Description: Datasheet; ComponentLink2URL: http://www-s.ti.com/sc/ds/sn74ac08.pdf; ComponentLink3Description: Packaging Specification; ComponentLink3URL: http://focus.ti.com/lit/ml/mtss001c/mtss001c.pdf
footprint PW014 (Shrink Small Outline; 14 Leads; Body Width 4.4 mm; Pitch 0.65 mm)
3D model PW014 (Shrink Small Outline; 14 Leads; Body Width 4.4 mm; Pitch 0.65 mm)
signal-integrity model SN74AC08PWLE
pins on every part: 7 GND (power) hidden to GND, 14 VCC (power) hidden to VCC
part A pins: 1 A (in), 2 B (in), 3 Y (out)
part B pins: 4 A (in), 5 B (in), 6 Y (out)
part C pins: 8 Y (out), 9 A (in), 10 B (in)
part D pins: 11 Y (out), 12 A (in), 13 B (in)

## SN74AC10D
designator U?
Triple 3-Input Positive-NAND Gate; Published: 8-Jun-2000; LatestRevisionDate: 13-Apr-2006; LatestRevisionNote: IPC-7351 Footprint Added.; DatasheetVersion: Sep-1996; PackageVersion: Jan-1998; PackageReference: D014; Publisher: Altium Limited; PackageDescription: 14-Pin Small Outline Integrated Circuit 1.27 mm Pitch; Code_IPC: SOIC127P600-14; ComponentLink1Description: Manufacturer Link; ComponentLink1URL: http://www.ti.com/; ComponentLink2Description: Datasheet; ComponentLink2URL: http://www-s.ti.com/sc/ds/sn74ac10.pdf; ComponentLink3Description: Packaging Specification; ComponentLink3URL: http://focus.ti.com/lit/ml/mpds177/mpds177.pdf
footprint D014_N (SOIC, 14-Leads, Body 8.7x3.9mm, Pitch 1.27mm, IPC Medium Density)
footprint D014_L (SOIC, 14-Leads, Body 8.7x3.9mm, Pitch 1.27mm, IPC High Density)
footprint D014_M (SOIC, 14-Leads, Body 8.7x3.9mm, Pitch 1.27mm, IPC Low Density)
3D model D014 (14-Pin Small Outline Integrated Circuit 1.27 mm Pitch)
signal-integrity model SN74AC10D
pins on every part: 7 GND (power) hidden to GND, 14 VCC (power) hidden to VCC
part A pins: 1 A (in), 2 B (in), 12 Y (out), 13 C (in)
part B pins: 3 A (in), 4 B (in), 5 C (in), 6 Y (out)
part C pins: 8 Y (out), 9 A (in), 10 B (in), 11 C (in)

## SN74AC10DBLE
designator U?
Triple 3-Input Positive-NAND Gate; Published: 8-Jun-2000; LatestRevisionDate: 04-Mar-2005; LatestRevisionNote: Stylized 3D Model Added.; DatasheetVersion: Sep-1996; PackageVersion: May-1999; PackageReference: DB014; Publisher: Altium Limited; PackageDescription: SSOP, Plastic; 14 Leads; Body Width 5.3 mm; Pitch 0.65 mm; Code_JEDEC: MO-150-AB; ComponentLink1Description: Manufacturer Link; ComponentLink1URL: http://www.ti.com/; ComponentLink2Description: Datasheet; ComponentLink2URL: http://www-s.ti.com/sc/ds/sn74ac10.pdf; ComponentLink3Description: Packaging Specification; ComponentLink3URL: http://focus.ti.com/lit/ml/msso002e/msso002e.pdf
footprint DB014 (SSOP, Plastic; 14 Leads; Body Width 5.3 mm; Pitch 0.65 mm)
3D model DB014 (SSOP, Plastic; 14 Leads; Body Width 5.3 mm; Pitch 0.65 mm)
signal-integrity model SN74AC10DBLE
pins on every part: 7 GND (power) hidden to GND, 14 VCC (power) hidden to VCC
part A pins: 1 A (in), 2 B (in), 12 Y (out), 13 C (in)
part B pins: 3 A (in), 4 B (in), 5 C (in), 6 Y (out)
part C pins: 8 Y (out), 9 A (in), 10 B (in), 11 C (in)

## SN74AC10N
designator U?
Triple 3-Input Positive-NAND Gate; Published: 8-Jun-2000; LatestRevisionDate: 04-Mar-2005; LatestRevisionNote: Stylized 3D Model Added.; DatasheetVersion: Sep-1996; PackageVersion: Oct-1995; PackageReference: N014; Publisher: Altium Limited; PackageDescription: DIP; 14 Leads; Row Spacing 7.62 mm; Pitch 2.54 mm; ComponentLink1Description: Manufacturer Link; ComponentLink1URL: http://www.ti.com/; ComponentLink2Description: Datasheet; ComponentLink2URL: http://www-s.ti.com/sc/ds/sn74ac10.pdf; ComponentLink3Description: Packaging Specification; ComponentLink3URL: http://focus.ti.com/lit/ml/mpdi002c/mpdi002c.pdf
footprint N014 (DIP; 14 Leads; Row Spacing 7.62 mm; Pitch 2.54 mm)
3D model N014 (DIP; 14 Leads; Row Spacing 7.62 mm; Pitch 2.54 mm)
signal-integrity model SN74AC10N
pins on every part: 7 GND (power) hidden to GND, 14 VCC (power) hidden to VCC
part A pins: 1 A (in), 2 B (in), 12 Y (out), 13 C (in)
part B pins: 3 A (in), 4 B (in), 5 C (in), 6 Y (out)
part C pins: 8 Y (out), 9 A (in), 10 B (in), 11 C (in)

## SN74AC10PWLE
designator U?
Triple 3-Input Positive-NAND Gate; Published: 8-Jun-2000; LatestRevisionDate: 04-Mar-2005; LatestRevisionNote: Stylized 3D Model Added.; DatasheetVersion: Sep-1996; PackageVersion: Feb-1999; PackageReference: PW014; Publisher: Altium Limited; PackageDescription: Shrink Small Outline; 14 Leads; Body Width 4.4 mm; Pitch 0.65 mm; ComponentLink1Description: Manufacturer Link; ComponentLink1URL: http://www.ti.com/; ComponentLink2Description: Datasheet; ComponentLink2URL: http://www-s.ti.com/sc/ds/sn74ac10.pdf; ComponentLink3Description: Packaging Specification; ComponentLink3URL: http://focus.ti.com/lit/ml/mtss001c/mtss001c.pdf
footprint PW014 (Shrink Small Outline; 14 Leads; Body Width 4.4 mm; Pitch 0.65 mm)
3D model PW014 (Shrink Small Outline; 14 Leads; Body Width 4.4 mm; Pitch 0.65 mm)
signal-integrity model SN74AC10PWLE
pins on every part: 7 GND (power) hidden to GND, 14 VCC (power) hidden to VCC
part A pins: 1 A (in), 2 B (in), 12 Y (out), 13 C (in)
part B pins: 3 A (in), 4 B (in), 5 C (in), 6 Y (out)
part C pins: 8 Y (out), 9 A (in), 10 B (in), 11 C (in)

## SN74AC11D
designator U?
Triple 3-Input Positive-AND Gate; Published: 8-Jun-2000; LatestRevisionDate: 13-Apr-2006; LatestRevisionNote: IPC-7351 Footprint Added.; DatasheetVersion: Sep-1996; PackageVersion: Jan-1998; PackageReference: D014; Publisher: Altium Limited; PackageDescription: 14-Pin Small Outline Integrated Circuit 1.27 mm Pitch; Code_IPC: SOIC127P600-14; ComponentLink1Description: Manufacturer Link; ComponentLink1URL: http://www.ti.com/; ComponentLink2Description: Datasheet; ComponentLink2URL: http://www-s.ti.com/sc/ds/sn74ac11.pdf; ComponentLink3Description: Packaging Specification; ComponentLink3URL: http://focus.ti.com/lit/ml/mpds177/mpds177.pdf
footprint D014_N (SOIC, 14-Leads, Body 8.7x3.9mm, Pitch 1.27mm, IPC Medium Density)
footprint D014_L (SOIC, 14-Leads, Body 8.7x3.9mm, Pitch 1.27mm, IPC High Density)
footprint D014_M (SOIC, 14-Leads, Body 8.7x3.9mm, Pitch 1.27mm, IPC Low Density)
3D model D014 (14-Pin Small Outline Integrated Circuit 1.27 mm Pitch)
signal-integrity model SN74AC11D
pins on every part: 7 GND (power) hidden to GND, 14 VCC (power) hidden to VCC
part A pins: 1 A (in), 2 B (in), 12 Y (out), 13 C (in)
part B pins: 3 A (in), 4 B (in), 5 C (in), 6 Y (out)
part C pins: 8 Y (out), 9 A (in), 10 B (in), 11 C (in)

## SN74AC11DBLE
designator U?
Triple 3-Input Positive-AND Gate; Published: 8-Jun-2000; LatestRevisionDate: 04-Mar-2005; LatestRevisionNote: Stylized 3D Model Added.; DatasheetVersion: Sep-1996; PackageVersion: May-1999; PackageReference: DB014; Publisher: Altium Limited; PackageDescription: SSOP, Plastic; 14 Leads; Body Width 5.3 mm; Pitch 0.65 mm; Code_JEDEC: MO-150-AB; ComponentLink1Description: Manufacturer Link; ComponentLink1URL: http://www.ti.com/; ComponentLink2Description: Datasheet; ComponentLink2URL: http://www-s.ti.com/sc/ds/sn74ac11.pdf; ComponentLink3Description: Packaging Specification; ComponentLink3URL: http://focus.ti.com/lit/ml/msso002e/msso002e.pdf
footprint DB014 (SSOP, Plastic; 14 Leads; Body Width 5.3 mm; Pitch 0.65 mm)
3D model DB014 (SSOP, Plastic; 14 Leads; Body Width 5.3 mm; Pitch 0.65 mm)
signal-integrity model SN74AC11DBLE
pins on every part: 7 GND (power) hidden to GND, 14 VCC (power) hidden to VCC
part A pins: 1 A (in), 2 B (in), 12 Y (out), 13 C (in)
part B pins: 3 A (in), 4 B (in), 5 C (in), 6 Y (out)
part C pins: 8 Y (out), 9 A (in), 10 B (in), 11 C (in)

## SN74AC11N
designator U?
Triple 3-Input Positive-AND Gate; Published: 8-Jun-2000; LatestRevisionDate: 04-Mar-2005; LatestRevisionNote: Stylized 3D Model Added.; DatasheetVersion: Sep-1996; PackageVersion: Oct-1995; PackageReference: N014; Publisher: Altium Limited; PackageDescription: DIP; 14 Leads; Row Spacing 7.62 mm; Pitch 2.54 mm; ComponentLink1Description: Manufacturer Link; ComponentLink1URL: http://www.ti.com/; ComponentLink2Description: Datasheet; ComponentLink2URL: http://www-s.ti.com/sc/ds/sn74ac11.pdf; ComponentLink3Description: Packaging Specification; ComponentLink3URL: http://focus.ti.com/lit/ml/mpdi002c/mpdi002c.pdf
footprint N014 (DIP; 14 Leads; Row Spacing 7.62 mm; Pitch 2.54 mm)
3D model N014 (DIP; 14 Leads; Row Spacing 7.62 mm; Pitch 2.54 mm)
signal-integrity model SN74AC11N
pins on every part: 7 GND (power) hidden to GND, 14 VCC (power) hidden to VCC
part A pins: 1 A (in), 2 B (in), 12 Y (out), 13 C (in)
part B pins: 3 A (in), 4 B (in), 5 C (in), 6 Y (out)
part C pins: 8 Y (out), 9 A (in), 10 B (in), 11 C (in)

## SN74AC11PWLE
designator U?
Triple 3-Input Positive-AND Gate; Published: 8-Jun-2000; LatestRevisionDate: 04-Mar-2005; LatestRevisionNote: Stylized 3D Model Added.; DatasheetVersion: Sep-1996; PackageVersion: Feb-1999; PackageReference: PW014; Publisher: Altium Limited; PackageDescription: Shrink Small Outline; 14 Leads; Body Width 4.4 mm; Pitch 0.65 mm; ComponentLink1Description: Manufacturer Link; ComponentLink1URL: http://www.ti.com/; ComponentLink2Description: Datasheet; ComponentLink2URL: http://www-s.ti.com/sc/ds/sn74ac11.pdf; ComponentLink3Description: Packaging Specification; ComponentLink3URL: http://focus.ti.com/lit/ml/mtss001c/mtss001c.pdf
footprint PW014 (Shrink Small Outline; 14 Leads; Body Width 4.4 mm; Pitch 0.65 mm)
3D model PW014 (Shrink Small Outline; 14 Leads; Body Width 4.4 mm; Pitch 0.65 mm)
signal-integrity model SN74AC11PWLE
pins on every part: 7 GND (power) hidden to GND, 14 VCC (power) hidden to VCC
part A pins: 1 A (in), 2 B (in), 12 Y (out), 13 C (in)
part B pins: 3 A (in), 4 B (in), 5 C (in), 6 Y (out)
part C pins: 8 Y (out), 9 A (in), 10 B (in), 11 C (in)

## SN74AC14D
designator U?
Hex Schmitt-Trigger Inverter; Published: 8-Jun-2000; LatestRevisionDate: 13-Apr-2006; LatestRevisionNote: IPC-7351 Footprint Added.; DatasheetVersion: Feb-1998; PackageVersion: Jan-1998; PackageReference: D014; Publisher: Altium Limited; PackageDescription: 14-Pin Small Outline Integrated Circuit 1.27 mm Pitch; Code_IPC: SOIC127P600-14; ComponentLink1Description: Manufacturer Link; ComponentLink1URL: http://www.ti.com/; ComponentLink2Description: Datasheet; ComponentLink2URL: http://www-s.ti.com/sc/ds/sn74ac14.pdf; ComponentLink3Description: Packaging Specification; ComponentLink3URL: http://focus.ti.com/lit/ml/mpds177/mpds177.pdf
footprint D014_N (SOIC, 14-Leads, Body 8.7x3.9mm, Pitch 1.27mm, IPC Medium Density)
footprint D014_L (SOIC, 14-Leads, Body 8.7x3.9mm, Pitch 1.27mm, IPC High Density)
footprint D014_M (SOIC, 14-Leads, Body 8.7x3.9mm, Pitch 1.27mm, IPC Low Density)
3D model D014 (14-Pin Small Outline Integrated Circuit 1.27 mm Pitch)
signal-integrity model SN74AC14D
pins on every part: 7 GND (power) hidden to GND, 14 VCC (power) hidden to VCC
part A pins: 1 A (in), 2 Y (out)
part B pins: 3 A (in), 4 Y (out)
part C pins: 5 A (in), 6 Y (out)
part D pins: 8 Y (out), 9 A (in)
part E pins: 10 Y (out), 11 A (in)
part F pins: 12 Y (out), 13 A (in)

## SN74AC14DB
designator U?
Hex Schmitt-Trigger Inverter; Published: 8-Jun-2000; LatestRevisionDate: 04-Mar-2005; LatestRevisionNote: Stylized 3D Model Added.; DatasheetVersion: Feb-1998; PackageVersion: May-1999; PackageReference: DB014; Publisher: Altium Limited; PackageDescription: SSOP, Plastic; 14 Leads; Body Width 5.3 mm; Pitch 0.65 mm; Code_JEDEC: MO-150-AB; ComponentLink1Description: Manufacturer Link; ComponentLink1URL: http://www.ti.com/; ComponentLink2Description: Datasheet; ComponentLink2URL: http://www-s.ti.com/sc/ds/sn74ac14.pdf; ComponentLink3Description: Packaging Specification; ComponentLink3URL: http://focus.ti.com/lit/ml/msso002e/msso002e.pdf
footprint DB014 (SSOP, Plastic; 14 Leads; Body Width 5.3 mm; Pitch 0.65 mm)
3D model DB014 (SSOP, Plastic; 14 Leads; Body Width 5.3 mm; Pitch 0.65 mm)
signal-integrity model SN74AC14DB
pins on every part: 7 GND (power) hidden to GND, 14 VCC (power) hidden to VCC
part A pins: 1 A (in), 2 Y (out)
part B pins: 3 A (in), 4 Y (out)
part C pins: 5 A (in), 6 Y (out)
part D pins: 8 Y (out), 9 A (in)
part E pins: 10 Y (out), 11 A (in)
part F pins: 12 Y (out), 13 A (in)

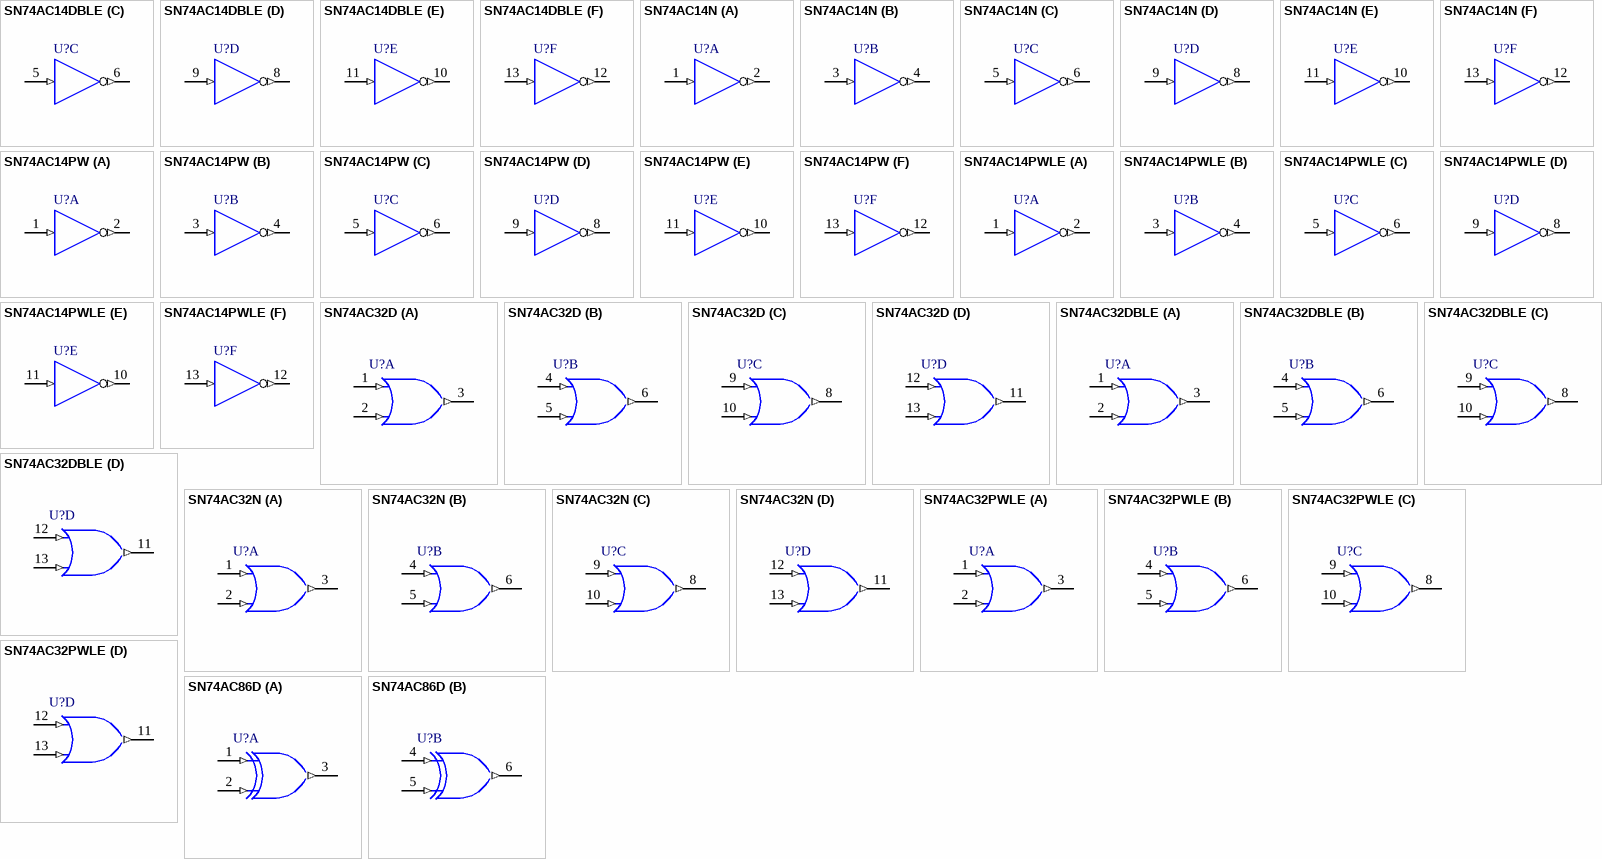
[diagram p54: symbols SN74AC14DBLE to SN74AC86D]